# Altium footprint library TYCO_5787745.PcbLib: 1 footprints
Each footprint in its own frame and in the unit in brackets; x right, y up, seen from the top. Pads: shape width x height; smd on the part's side, far side on the other; paste and mask are expansions set on the pad; w line width, h text height; cw(c..) or ccw(c..) is an arc to the next point about the centre after c.
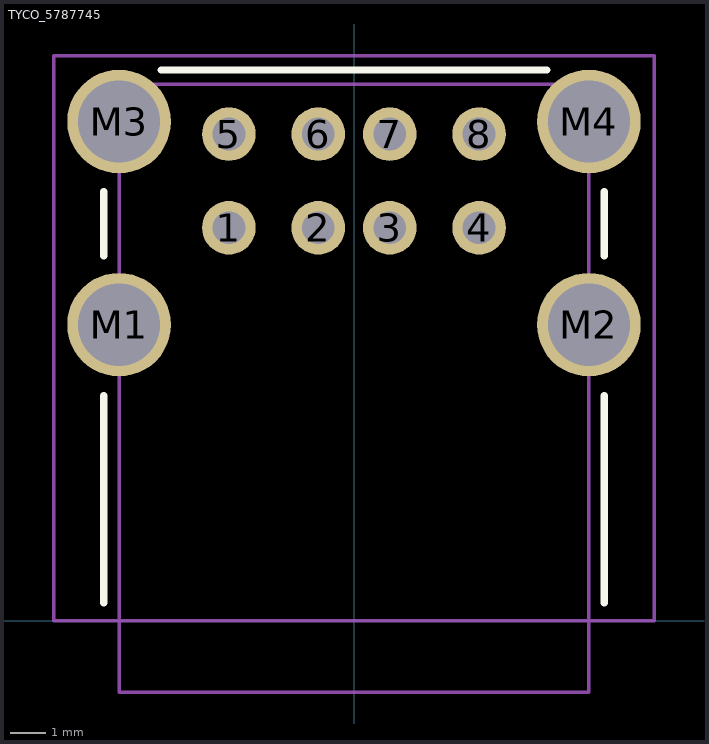
[diagram p0: the footprint, top view; thin cyan lines are the x and y axes]

## TYCO_5787745 [mm]
pads (12):
  round 1.5 hole 0.92: 1(-3.5,10.99) 2(-1,10.99) 3(1,10.99) 4(3.5,10.99) 5(-3.5,13.61) 6(-1,13.61) 7(1,13.61) 8(3.5,13.61)
  round 2.9 hole 2.3: M1(-6.57,8.28) M2(6.57,8.28) M3(-6.57,13.96) M4(6.57,13.96)
Top Overlay:
  lines w0.2: -7,0.5 -7,6.3 ; -7,10.2 -7,12 ; -5.4,15.4 5.4,15.4 ; 7,0.5 7,6.3 ; 7,10.2 7,12
Mechanical 13:
  lines w0.1: -6.565,-2 6.565,-2 6.565,15 -6.565,15 -6.565,-2
Mechanical 15:
  lines w0.1: -8.4,0 8.4,0 8.4,15.8 -8.4,15.8 -8.4,0
3D body: height 16.27, standoff -3.87, extent -8.16,-1.99 8.1,15.19